# Altium schematic symbol library DZ.SchLib: 2 symbols
Pins are listed as number, name and electrical type; pins without a type are passive.

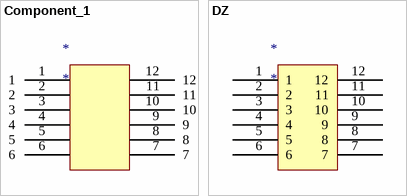
[diagram p0: symbols Component_1 to DZ]

## Component_1
designator *
pins: 1, 2, 3, 4, 5, 6, 7, 8, 9, 10, 11, 12

## DZ
designator *
footprint DZ
pins: 1, 2, 3, 4, 5, 6, 7, 8, 9, 10, 11, 12